# EAGLE library part DA14580WLCSP (library dialog-semi)
Low Power Bluetooth Smart SoC
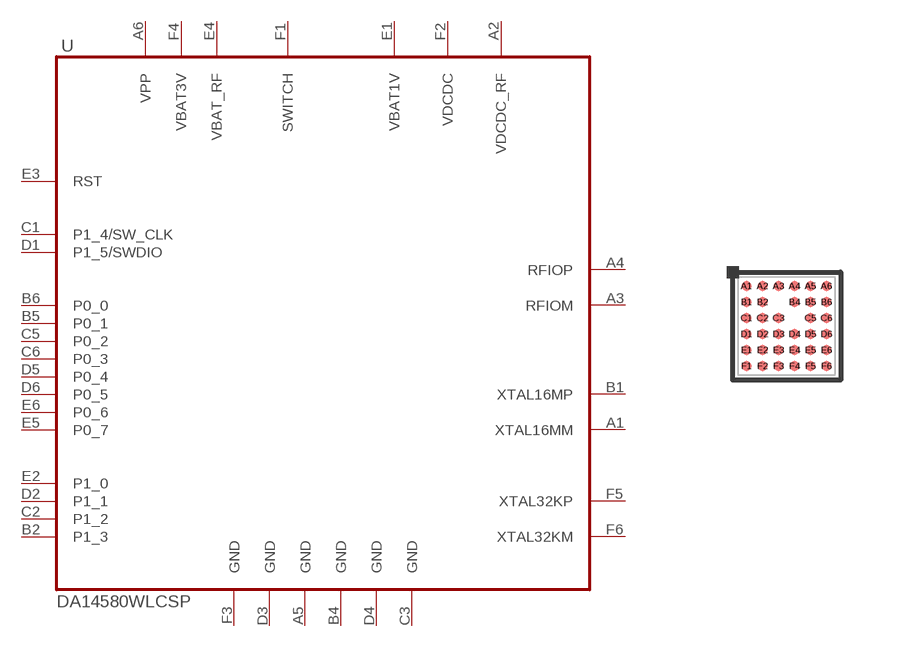
[diagram p0: symbol with the pads of WLCSP34; footprint WLCSP34]

Designator prefix U

## DA14580WLCSP  [WLCSP34]
A1  XTAL16MM  out
A2  VDCDC_RF
A3  RFIOM
A4  RFIOP
A5  GND  pwr
A6  VPP  in
B1  XTAL16MP  in
B2  P1_3
B4  GND  pwr
B5  P0_1
B6  P0_0
C1  P1_4/SW_CLK
C2  P1_2
C3  GND  pwr
C5  P0_2
C6  P0_3
D1  P1_5/SWDIO
D2  P1_1
D3  GND  pwr
D4  GND  pwr
D5  P0_4
D6  P0_5
E1  VBAT1V
E2  P1_0
E3  RST  in
E4  VBAT_RF
E5  P0_7
E6  P0_6
F1  SWITCH
F2  VDCDC  out
F3  GND  pwr
F4  VBAT3V  in
F5  XTAL32KP  in
F6  XTAL32KM  out

## Footprint WLCSP34 (pad centres in mm)
WLCSP-34 2.436 mm x 2.436 mm
smd 0.25 x 0.25: A1 -1,1; A2 -0.6,1; A3 -0.2,1; A4 0.2,1; A5 0.6,1; A6 1,1; B1 -1,0.6; B2 -0.6,0.6; B4 0.2,0.6; B5 0.6,0.6; B6 1,0.6; C1 -1,0.2; C2 -0.6,0.2; C3 -0.2,0.2; C5 0.6,0.2; C6 1,0.2; D1 -1,-0.2; D2 -0.6,-0.2; D3 -0.2,-0.2; D4 0.2,-0.2; D5 0.6,-0.2; D6 1,-0.2; E1 -1,-0.6; E2 -0.6,-0.6; E3 -0.2,-0.6; E4 0.2,-0.6; E5 0.6,-0.6; E6 1,-0.6; F1 -1,-1; F2 -0.6,-1; F3 -0.2,-1; F4 0.2,-1; F5 0.6,-1; F6 1,-1